# EAGLE library part TPS63001 (library TPS63001)
TI TPS63001 3.3V Out Buck-Boost Voltage Regulator. Input voltage of 1.8V to 5.5V.
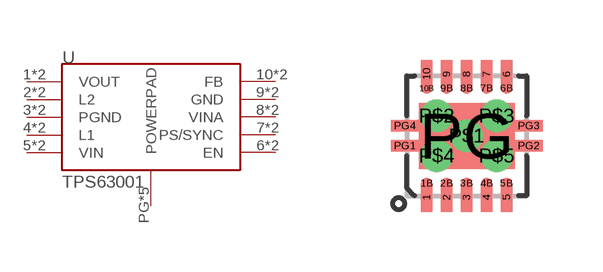
[diagram p0: symbol with the pads of TPS63001; footprint TPS63001]

Designator prefix U

## TPS63001 (Availability: Unavailable; Description: 96% Buck-Boost Converter with 1.7A Current Switches 3.3V fixed Output voltage in 3x3 QFN; MF: Texas Instruments; MP: TPS63001; Package: VFDFN-10 Texas Instruments; Price: None)  [TPS63001]
1  VOUT  out
1B  VOUT  out
2  L2  pas
2B  L2  pas
3  PGND  pwr
3B  PGND  pwr
4  L1  hiz
4B  L1  hiz
5  VIN  in
5B  VIN  in
6  EN
6B  EN
7  PS/SYNC
7B  PS/SYNC
8  VINA
8B  VINA
9  GND  pwr
9B  GND  pwr
10  FB
10B  FB
PG  POWERPAD
PG1  POWERPAD
PG2  POWERPAD
PG3  POWERPAD
PG4  POWERPAD

## Footprint TPS63001 (pad centres in mm)
smd 0.28 x 0.71: 1 -1,-1.545; 2 -0.5,-1.545; 3 0,-1.545; 4 0.5,-1.545; 5 1,-1.545; 6 1,1.545; 7 0.5,1.545; 8 0,1.545; 9 -0.5,1.545; 10 -1,1.545
smd 0.28 x 0.28: 1B -1,-1.19; 2B -0.5,-1.19; 3B 0,-1.19; 4B 0.5,-1.19; 5B 1,-1.19; 6B 1,1.19; 7B 0.5,1.19; 8B 0,1.19; 9B -0.5,1.19; 10B -1,1.19
drill 0.3 pad 0.61: P$1 0,0; P$2 -0.75,0.5; P$3 0.75,0.5; P$4 -0.75,-0.5; P$5 0.75,-0.5
smd 2.4 x 1.65: PG 0,0
smd 0.7 x 0.28: PG1 -1.55,-0.25; PG2 1.55,-0.25; PG3 1.55,0.25; PG4 -1.55,0.25